# EAGLE library part MAS35*9 (library micronas)
MAS® 35x9F MPEG Layer 2/3, AAC Audio Decoder, G.729 Annex A Codec Source: https://www.micronas.com .. mas35x9f_3ds.pdf
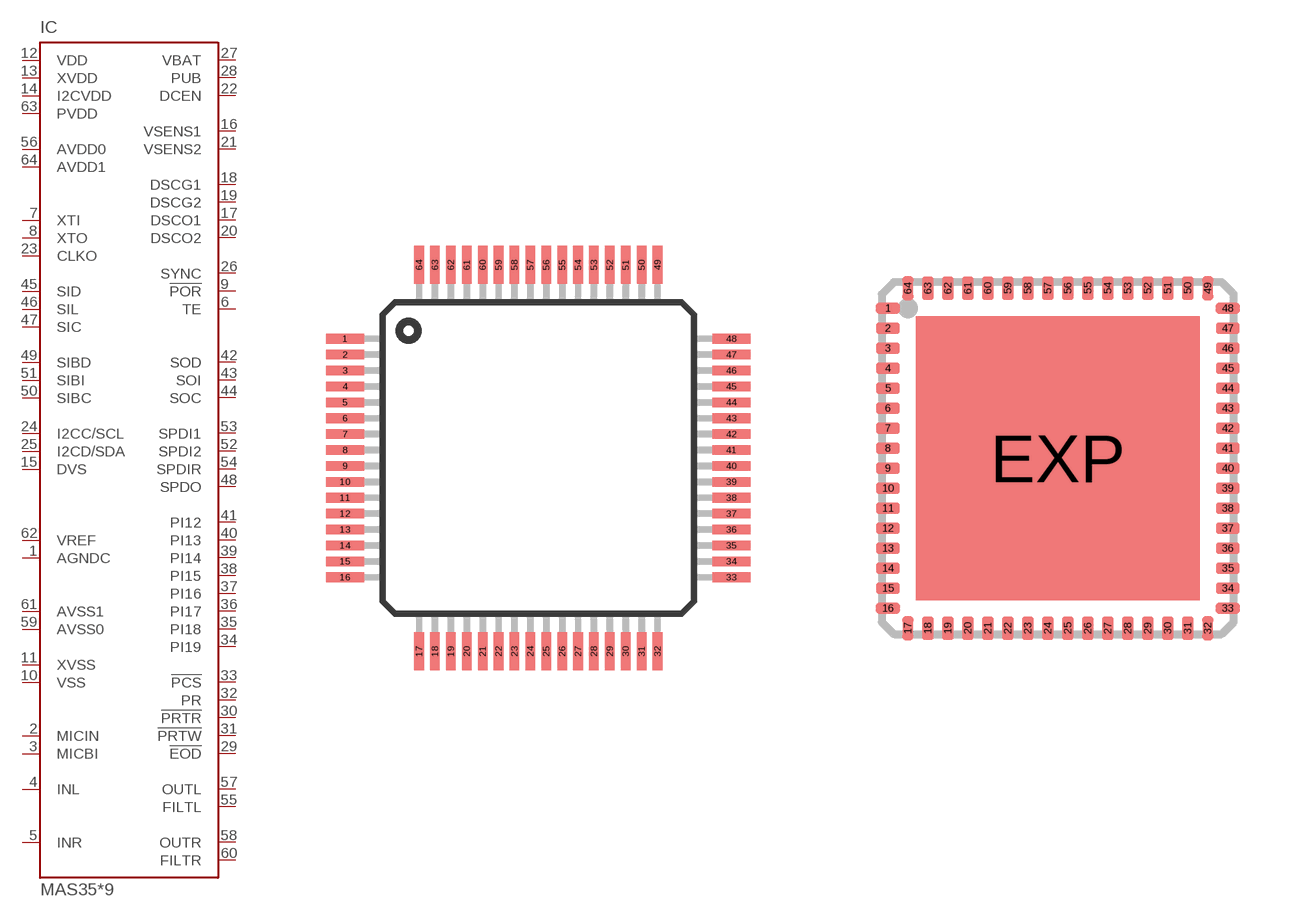
[diagram p2: symbol with the pads of PMQFP64-2; footprints PMQFP64-2, PQFN64-1]

Designator prefix IC

## MAS3519QI (OC_FARNELL: unknown; OC_NEWARK: unknown), MAS3529QI (OC_FARNELL: unknown; OC_NEWARK: unknown), MAS3539QI (OC_FARNELL: unknown; OC_NEWARK: unknown), MAS3549QI (OC_FARNELL: unknown; OC_NEWARK: unknown), MAS3559QI (OC_FARNELL: unknown; OC_NEWARK: unknown)  [PMQFP64-2]
1  AGNDC  pwr
2  MICIN  in
3  MICBI  in
4  INL  in
5  INR  in
6  TE  in
7  XTI  in
8  XTO  out
9  !POR  in
10  VSS  in
11  XVSS  in
12  VDD  in
13  XVDD  in
14  I2CVDD  in
15  DVS  in
16  VSENS1
17  DSCO1  pwr
18  DSCG1  pwr
19  DSCG2  pwr
20  DSCO2  pwr
21  VSENS2
22  DCEN  in
23  CLKO  out
24  I2CC/SCL
25  I2CD/SDA
26  SYNC  out
27  VBAT  in
28  PUB  out
29  !EOD  out
30  !PRTR  out
31  !PRTW  out
32  PR  in
33  !PCS  in
34  PI19
35  PI18
36  PI17
37  PI16
38  PI15
39  PI14
40  PI13
41  PI12
42  SOD  out
43  SOI  out
44  SOC  out
45  SID
46  SIL
47  SIC
48  SPDO  out
49  SIBD  in
50  SIBC  in
51  SIBI  in
52  SPDI2  in
53  SPDI1  in
54  SPDIR  in
55  FILTL  in
56  AVDD0  in
57  OUTL  out
58  OUTR  out
59  AVSS0  pwr
60  FILTR  in
61  AVSS1  pwr
62  VREF  in
63  PVDD  pwr
64  AVDD1  pwr

## MAS3519XK (OC_FARNELL: unknown; OC_NEWARK: unknown), MAS3529XK (OC_FARNELL: unknown; OC_NEWARK: unknown), MAS3539XK (OC_FARNELL: unknown; OC_NEWARK: unknown), MAS3549XK (OC_FARNELL: unknown; OC_NEWARK: unknown), MAS3559XK (OC_FARNELL: unknown; OC_NEWARK: unknown)  [PQFN64-1]
Pads as for PMQFP64-2

## MAS3519FH (OC_FARNELL: unknown; OC_NEWARK: unknown), MAS3529FH (OC_FARNELL: unknown; OC_NEWARK: unknown), MAS3539FH (OC_FARNELL: unknown; OC_NEWARK: unknown), MAS3549FH (OC_FARNELL: unknown; OC_NEWARK: unknown), MAS3559FH (OC_FARNELL: unknown; OC_NEWARK: unknown)  [PLQFP64-1]
Pads as for PMQFP64-2

## Footprint PMQFP64-2 (pad centres in mm)
Plastic Metric Quad Flat Package 64 leads, 10 × 10 × 2 mm³ Source: https://www.micronas.com .. mas35x9f_3ds.pdf
smd 1.2 x 0.3: 1 -6.075,3.75; 2 -6.075,3.25; 3 -6.075,2.75; 4 -6.075,2.25; 5 -6.075,1.75; 6 -6.075,1.25; 7 -6.075,0.75; 8 -6.075,0.25; 9 -6.075,-0.25; 10 -6.075,-0.75; 11 -6.075,-1.25; 12 -6.075,-1.75; 13 -6.075,-2.25; 14 -6.075,-2.75; 15 -6.075,-3.25; 16 -6.075,-3.75; 33 6.075,-3.75; 34 6.075,-3.25; 35 6.075,-2.75; 36 6.075,-2.25; 37 6.075,-1.75; 38 6.075,-1.25; 39 6.075,-0.75; 40 6.075,-0.25; 41 6.075,0.25; 42 6.075,0.75; 43 6.075,1.25; 44 6.075,1.75; 45 6.075,2.25; 46 6.075,2.75; 47 6.075,3.25; 48 6.075,3.75
smd 0.3 x 1.2: 17 -3.75,-6.075; 18 -3.25,-6.075; 19 -2.75,-6.075; 20 -2.25,-6.075; 21 -1.75,-6.075; 22 -1.25,-6.075; 23 -0.75,-6.075; 24 -0.25,-6.075; 25 0.25,-6.075; 26 0.75,-6.075; 27 1.25,-6.075; 28 1.75,-6.075; 29 2.25,-6.075; 30 2.75,-6.075; 31 3.25,-6.075; 32 3.75,-6.075; 49 3.75,6.075; 50 3.25,6.075; 51 2.75,6.075; 52 2.25,6.075; 53 1.75,6.075; 54 1.25,6.075; 55 0.75,6.075; 56 0.25,6.075; 57 -0.25,6.075; 58 -0.75,6.075; 59 -1.25,6.075; 60 -1.75,6.075; 61 -2.25,6.075; 62 -2.75,6.075; 63 -3.25,6.075; 64 -3.75,6.075

## Footprint PQFN64-1 (pad centres in mm)
Plastic Quad Flat Non-leaded package 64 pins, 9 × 9 × 0.85 mm³, 0.5 mm pitch Source: https://www.micronas.com .. mas35x9f_3ds.pdf
smd 0.6 x 0.28: 1 -4.25,3.75; 2 -4.25,3.25; 3 -4.25,2.75; 4 -4.25,2.25; 5 -4.25,1.75; 6 -4.25,1.25; 7 -4.25,0.75; 8 -4.25,0.25; 9 -4.25,-0.25; 10 -4.25,-0.75; 11 -4.25,-1.25; 12 -4.25,-1.75; 13 -4.25,-2.25; 14 -4.25,-2.75; 15 -4.25,-3.25; 16 -4.25,-3.75; 33 4.25,-3.75; 34 4.25,-3.25; 35 4.25,-2.75; 36 4.25,-2.25; 37 4.25,-1.75; 38 4.25,-1.25; 39 4.25,-0.75; 40 4.25,-0.25; 41 4.25,0.25; 42 4.25,0.75; 43 4.25,1.25; 44 4.25,1.75; 45 4.25,2.25; 46 4.25,2.75; 47 4.25,3.25; 48 4.25,3.75
smd 0.28 x 0.6: 17 -3.75,-4.25; 18 -3.25,-4.25; 19 -2.75,-4.25; 20 -2.25,-4.25; 21 -1.75,-4.25; 22 -1.25,-4.25; 23 -0.75,-4.25; 24 -0.25,-4.25; 25 0.25,-4.25; 26 0.75,-4.25; 27 1.25,-4.25; 28 1.75,-4.25; 29 2.25,-4.25; 30 2.75,-4.25; 31 3.25,-4.25; 32 3.75,-4.25; 49 3.75,4.25; 50 3.25,4.25; 51 2.75,4.25; 52 2.25,4.25; 53 1.75,4.25; 54 1.25,4.25; 55 0.75,4.25; 56 0.25,4.25; 57 -0.25,4.25; 58 -0.75,4.25; 59 -1.25,4.25; 60 -1.75,4.25; 61 -2.25,4.25; 62 -2.75,4.25; 63 -3.25,4.25; 64 -3.75,4.25
smd 7.1 x 7.1: EXP 0,0

## Footprint PLQFP64-1 (pad centres in mm)
Plastic Low Quad Flat Package 64 leads, 10 × 10 × 1.4 mm³ Source: https://www.micronas.com .. mas35x9f_3ds.pdf
smd 1 x 0.3: 1 -5.625,3.75; 2 -5.625,3.25; 3 -5.625,2.75; 4 -5.625,2.25; 5 -5.625,1.75; 6 -5.625,1.25; 7 -5.625,0.75; 8 -5.625,0.25; 9 -5.625,-0.25; 10 -5.625,-0.75; 11 -5.625,-1.25; 12 -5.625,-1.75; 13 -5.625,-2.25; 14 -5.625,-2.75; 15 -5.625,-3.25; 16 -5.625,-3.75; 33 5.625,-3.75; 34 5.625,-3.25; 35 5.625,-2.75; 36 5.625,-2.25; 37 5.625,-1.75; 38 5.625,-1.25; 39 5.625,-0.75; 40 5.625,-0.25; 41 5.625,0.25; 42 5.625,0.75; 43 5.625,1.25; 44 5.625,1.75; 45 5.625,2.25; 46 5.625,2.75; 47 5.625,3.25; 48 5.625,3.75
smd 0.3 x 1: 17 -3.75,-5.625; 18 -3.25,-5.625; 19 -2.75,-5.625; 20 -2.25,-5.625; 21 -1.75,-5.625; 22 -1.25,-5.625; 23 -0.75,-5.625; 24 -0.25,-5.625; 25 0.25,-5.625; 26 0.75,-5.625; 27 1.25,-5.625; 28 1.75,-5.625; 29 2.25,-5.625; 30 2.75,-5.625; 31 3.25,-5.625; 32 3.75,-5.625; 49 3.75,5.625; 50 3.25,5.625; 51 2.75,5.625; 52 2.25,5.625; 53 1.75,5.625; 54 1.25,5.625; 55 0.75,5.625; 56 0.25,5.625; 57 -0.25,5.625; 58 -0.75,5.625; 59 -1.25,5.625; 60 -1.75,5.625; 61 -2.25,5.625; 62 -2.75,5.625; 63 -3.25,5.625; 64 -3.75,5.625